# EAGLE library part PIC32MX250F128B (library MechE_433)
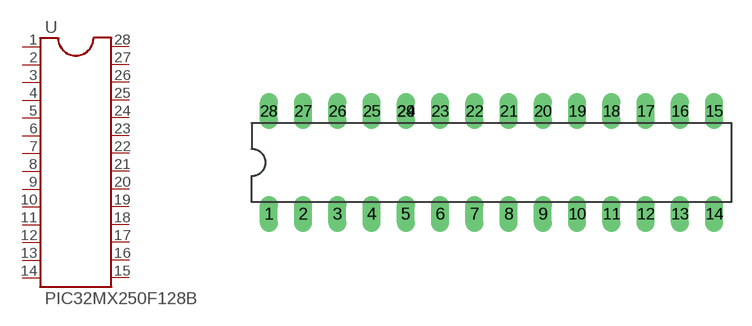
[diagram p11: symbol with the pads of DIL28-3; footprint DIL28-3]

Designator prefix -

## PIC32MX250F128B  [DIL28-3]
1  1.MCLR_BAR  pas
2  2.PGED3/VREF+/CVREF+/AN0/C3INC/RPA0/CTED1/PMD7/RA0  pas
3  3.PGED3/VREF-/CVREF-/AN1/RPA1/CTED2/PMD6/RA1  pas
4  4.PGED1/AN2/C1IND/C2INB/C3IND/RPB0/PMD0/RB0  pas
5  5.PGEC1/AN3/C1INC/C2INA/RPB1/CTED12/PMD1/RB1  pas
6  6.AN4/C1INB/C2IND/RPB2/SDA2/CTED13/PMD2/RB2  pas
7  7.AN5/C1INA/C2INC/RTCC/RPB3/SCL2/PMWR/RB3  pas
8  8.VSS  pas
9  9.OSC1/SLKI/RPA2/RA2  pas
10  10.OSC2/CLKO/RPA3/PMA0/RA3  pas
11  11.SOSCI/RPB4/RB4  pas
12  12.SOSCO/RPA4/T1CK/CTED9/PMA1/RA4  pas
13  13.VDD  pas
14  14.TMS/RPB5/USBID/RB5  pas
15  15.VBUS  pas
16  16.TDI/RPB7/CTED3/PMD5/INT0/RB7  pas
17  17.TCK/RPB7/CTED10/PMD4/RB8  pas
18  18.TDO/RPB9/SDA1/CTED4/PMD3/RB9  pas
19  19.VSS  pas
20  20.VCAP  pas
21  21.PGED2/RPB10/D+/CTED11/RB10  pas
22  22.PGEC2/RPB11/D-/RB11  pas
23  23.VUSB3V3  pas
24  24.AN11/RPB13/CTPLS/PMRD/RB13  pas
25  25.CVREFOUT/AN10/C3INB/RPB14/VBUSON/SCK1/CTED5/RB14  pas
26  26.AN9/C3INA/RPB15/SCK2/CTED6/PMCS1/RB15  pas
27  27.AVSS  pas
28  28.AVDD  pas

## Footprint DIL28-3 (pad centres in mm)
Dual In Line Package Small
drill 0.813 long: 1 -16.51,-3.81; 2 -13.97,-3.81; 3 -11.43,-3.81; 4 -8.89,-3.81; 5 -6.35,-3.81; 6 -3.81,-3.81; 7 -1.27,-3.81; 8 1.27,-3.81; 9 3.81,-3.81; 10 6.35,-3.81; 11 8.89,-3.81; 12 11.43,-3.81; 13 13.97,-3.81; 14 16.51,-3.81; 15 16.51,3.81; 16 13.97,3.81; 17 11.43,3.81; 18 8.89,3.81; 19 6.35,3.81; 20 3.81,3.81; 21 1.27,3.81; 22 -1.27,3.81; 23 -3.81,3.81; 24 -6.35,3.81; 25 -8.89,3.81; 26 -11.43,3.81; 27 -13.97,3.81; 28 -16.51,3.81; 29 -6.35,3.81